# Altium schematic symbol library COMBICON PTSA.SchLib: 6 symbols
Pins are listed as number, name and electrical type; pins without a type are passive.

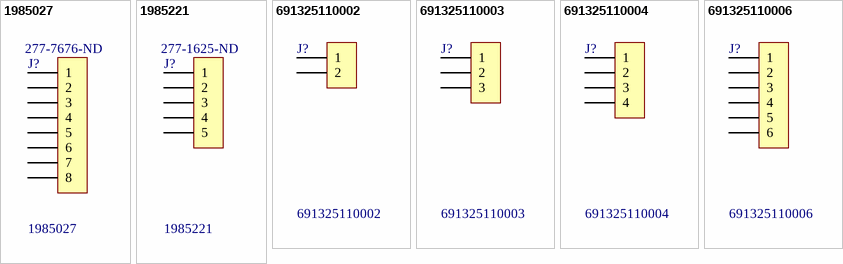
[diagram p0: symbols 1985027 to 691325110006]

## 1985027
designator J?  Supplier Part Number 1: 277-7676-ND
TERM BLOCK 8POS 45DEG 3.5MM PCB /; Manufacturer: Würth Elektronik eiSos GmbH; partNo: 691325110008; ComponentLink1 Description: Manufacturer; ComponentLink2 Description: Datasheet; NoPins: 8; Created Date: 10 December 2013; ComponentLink1URL: http://www.we-online.com; ComponentLink2URL: http://katalog.we-online.de/em/datasheet/6913251100xx.pdf; Created by: Karrer Zheng; Supplier 1: Digi-Key
footprint 1985027
pins: 1, 2, 3, 4, 5, 6, 7, 8

## 1985221
designator J?  Supplier Part Number 1: 277-1625-ND
TERM BLOCK 5POS 45DEG 3.5MM PCB; Manufacturer: Würth Elektronik eiSos GmbH; partNo: 691325110005; ComponentLink1 Description: Manufacturer; ComponentLink2 Description: Datasheet; NoPins: 5; Created Date: 10 December 2013; ComponentLink1URL: http://www.we-online.com; ComponentLink2URL: http://katalog.we-online.de/em/datasheet/6913251100xx.pdf; Created by: Karrer Zheng; Supplier 1: Digi-Key
pins: 1, 2, 3, 4, 5

## 691325110002
designator J?
WR-TBL Terminal block - serie 3251 - 3.50 mm; Manufacturer: Würth Elektronik eiSos GmbH; ComponentLink1 Description: Manufacturer; ComponentLink2 Description: Datasheet; NoPins: 2; Created Date: 10 December 2013; partNo: 691325110002; ComponentLink1URL: http://www.we-online.com; ComponentLink2URL: http://katalog.we-online.de/em/datasheet/6913251100xx.pdf; Created by: Karrer Zheng
footprint 691325110002 (3,50mm - PCB Horizontal With flanges - 02p)
pins: 1, 2

## 691325110003
designator J?
WR-TBL Terminal block - serie 3251 - 3.50 mm; Manufacturer: Würth Elektronik eiSos GmbH; ComponentLink1 Description: Manufacturer; ComponentLink2 Description: Datasheet; NoPins: 3; Created Date: 10 December 2013; partNo: 691325110003; ComponentLink1URL: http://www.we-online.com; ComponentLink2URL: http://katalog.we-online.de/em/datasheet/6913251100xx.pdf; Created by: Karrer Zheng
footprint 691325110003 (3,50mm - PCB Horizontal With flanges - 03p)
pins: 1, 2, 3

## 691325110004
designator J?
WR-TBL Terminal block - serie 3251 - 3.50 mm; Manufacturer: Würth Elektronik eiSos GmbH; ComponentLink1 Description: Manufacturer; ComponentLink2 Description: Datasheet; NoPins: 4; Created Date: 10 December 2013; partNo: 691325110004; ComponentLink1URL: http://www.we-online.com; ComponentLink2URL: http://katalog.we-online.de/em/datasheet/6913251100xx.pdf; Created by: Karrer Zheng
footprint 691325110004 (3,50mm - PCB Horizontal With flanges - 04p)
pins: 1, 2, 3, 4

## 691325110006
designator J?
WR-TBL Terminal block - serie 3251 - 3.50 mm; Manufacturer: Würth Elektronik eiSos GmbH; ComponentLink1 Description: Manufacturer; ComponentLink2 Description: Datasheet; NoPins: 6; Created Date: 10 December 2013; partNo: 691325110006; ComponentLink1URL: http://www.we-online.com; ComponentLink2URL: http://katalog.we-online.de/em/datasheet/6913251100xx.pdf; Created by: Karrer Zheng
footprint 691325110006 (3,50mm - PCB Horizontal With flanges - 06p)
pins: 1, 2, 3, 4, 5, 6